# Altium integrated library midori-sensor.IntLib: 1 symbol
Pins are listed as number, name and electrical type; pins without a type are passive.

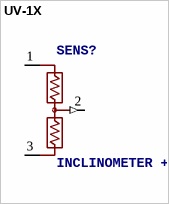
[diagram p0: symbol UV-1X]

## UV-1X
designator SENS?, comment INCLINOMETER +-45° Angel Sensor   Source: Midori America Corporation .. UV-1W.pdf
MPN: DK50-UV-190/115B/147; OC_FARNELL: unknown; OC_NEWARK: 33R2991
footprint UV-1X
pins: 1 +VIN, 2 OUT (out), 3 COM